# EAGLE library part ADA4841 (library kblom)
Low Power, Low Noise and Distortion, Rail-to-Rail Output Amplifiers Applications: Low power, low noise signal processing Battery-powered instrumentation 16-bit PulSAR® ADC drivers source <http://www.analog.com/static/imported-files/data_sheets/ADA4841-1_4841-2.pdf> opamp
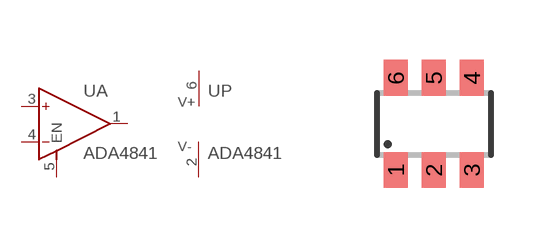
[diagram p0: symbol with the pads of SOT23-6; footprint SOT23-6]

Designator prefix U; gates P=PWR+- A=ADA4841-1

## ADA4841-1YRJ (FARNELL: 1838874)  [SOT23-6]
1  A:OUT  out
2  P:V-  pwr
3  A:IN+  in
4  A:IN-  in
5  A:EN  in
6  P:V+  pwr

## Footprint SOT23-6 (pad centres in mm)
Small Outline Transistor 6 lead
smd 0.6 x 0.9: 1 -0.95,-1.15; 2 0,-1.15; 3 0.95,-1.15; 4 0.95,1.15; 5 0,1.15; 6 -0.95,1.15